# Altium schematic symbol library L0402.Schlib: 1 symbol
Pins are listed as number, name and electrical type; pins without a type are passive.

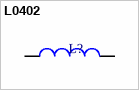
[diagram p0: symbol L0402]

## L0402
designator L?  (value not drawn)
0402 Chip Inductor - Standard
pins: 1, 2